# EAGLE library part SI8660ED-B-IS (library custom)
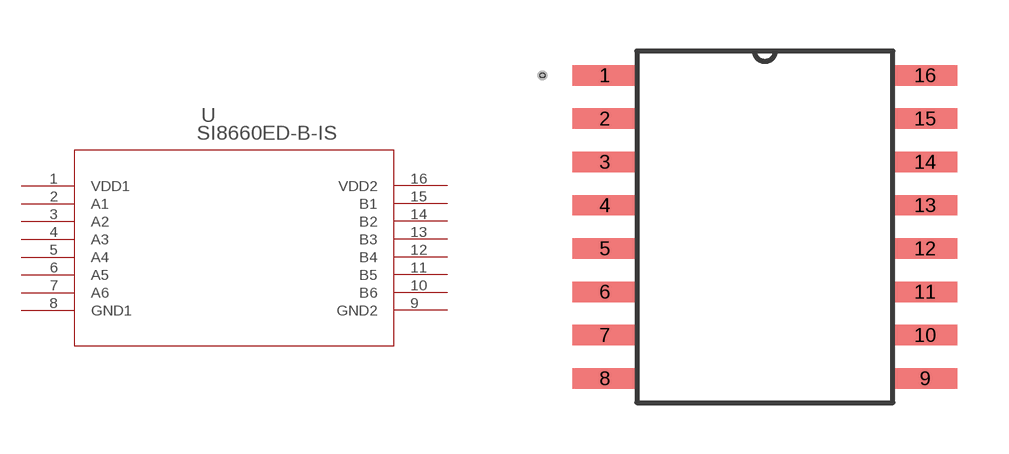
[diagram p0: symbol with the pads of SOIC-16W; footprint SOIC-16W]

Designator prefix U

## SI8660ED-B-IS  [SOIC-16W]
1  VDD1  pas
2  A1  in
3  A2  in
4  A3  in
5  A4  in
6  A5  in
7  A6  in
8  GND1  pas
9  GND2  pas
10  B6  out
11  B5  out
12  B4  out
13  B3  out
14  B2  out
15  B1  out
16  VDD2  pas

## Footprint SOIC-16W (pad centres in mm)
smd 1.9 x 0.6: 1 -4.7,4.445; 2 -4.7,3.175; 3 -4.7,1.905; 4 -4.7,0.635; 5 -4.7,-0.635; 6 -4.7,-1.905; 7 -4.7,-3.175; 8 -4.7,-4.445; 9 4.7,-4.445; 10 4.7,-3.175; 11 4.7,-1.905; 12 4.7,-0.635; 13 4.7,0.635; 14 4.7,1.905; 15 4.7,3.175; 16 4.7,4.445